# EAGLE library part 7-1393243-0 (library Relays)
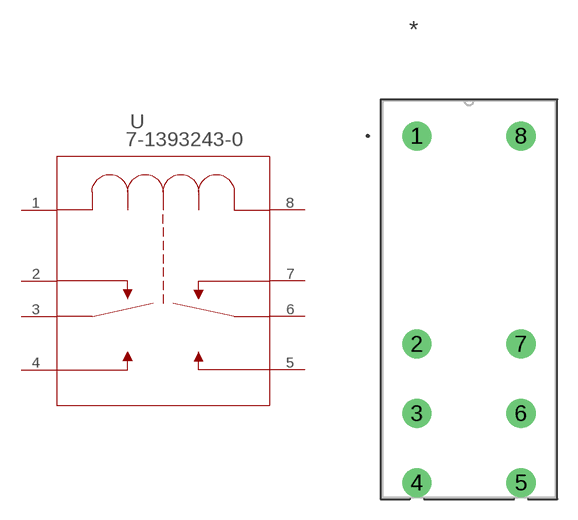
[diagram p34: symbol with the pads of RELAY_7-1393243-0; footprint RELAY_7-1393243-0]

Designator prefix U

## 7-1393243-0 (BUILT_BY: EMA_UL_Team; CATEGORY: Power Relays; COPYRIGHT: Copyright (C) 2016 Accelerated Designs. All rights reserved; DESCRIPTION: RT424048; MANUFACTURER_PART_NUMBER: RT424048; PART_STATUS: active; SERIES: SCHRACK Power PCB Relay RT2; VENDOR: TE Connectivity)  [RELAY_7-1393243-0]
1  1  pas
2  2  pas
3  3  pas
4  4  pas
5  5  pas
6  6  pas
7  3_2  pas
8  8  pas

## Footprint RELAY_7-1393243-0 (pad centres in mm)
drill 1.422 pad 1.93: 1 -7.62,23.927; 2 -7.62,8.687; 3 -7.62,3.607; 4 -7.62,-1.473; 5 0,-1.473; 6 0,3.607; 7 0,8.687; 8 0,23.927